# EAGLE library part SI7137DP (library 32bits)
P-Channel 20-V (D-S) MOSFET Vishay Siliconix RDS: 0.0025 at VGS = - 4.5 V
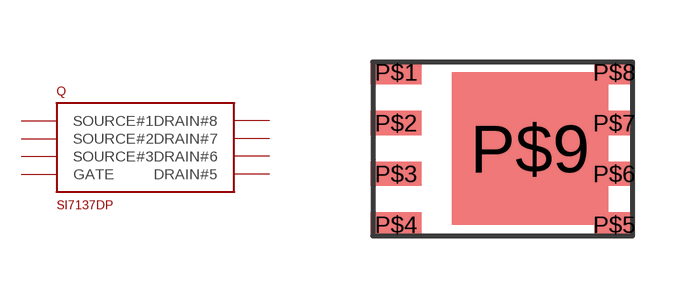
[diagram p10: symbol with the pads of SO-8; footprint SO-8]

Designator prefix Q

## SI7137DP  [SO-8]
P$1  SOURCE#1  out
P$2  SOURCE#2  out
P$3  SOURCE#3  out
P$4  GATE  hiz
P$5  DRAIN#5  in
P$6  DRAIN#6  in
P$7  DRAIN#7  in
P$8  DRAIN#8  in
P$9  DRAIN#8  in

## Footprint SO-8 (pad centres in mm)
smd 1.27 x 0.61: P$1 0,0; P$2 0,-1.27; P$3 0,-2.54; P$4 0,-3.81
smd 1.016 x 0.61: P$5 5.461,-3.81; P$6 5.461,-2.54; P$7 5.461,-1.27; P$8 5.461,0
smd 3.912 x 3.81: P$9 3.353,-1.905